# Altium footprint library Other.PcbLib: 3 footprints
Each footprint in its own frame and in the unit in brackets; x right, y up, seen from the top. Pads: shape width x height; smd on the part's side, far side on the other; paste and mask are expansions set on the pad; w line width, h text height; cw(c..) or ccw(c..) is an arc to the next point about the centre after c.
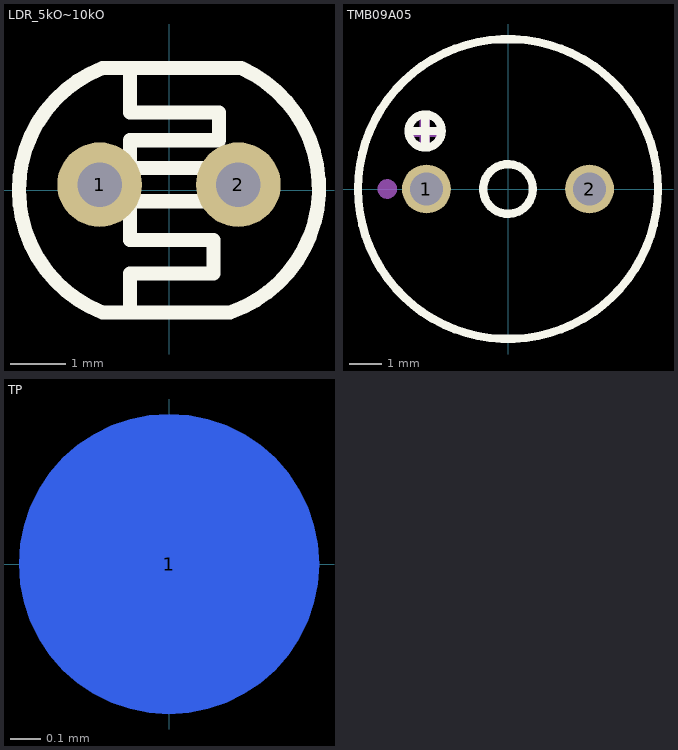
[diagram p0: the footprints below, top view; thin cyan lines are the x and y axes]

## LDR_5kO~10kO [mil] "540nm 5kO~10kO 600kO Through Hole,P=2.2mm Photoresistors RoHS"
pads (2):
  round 60 hole 31.5 paste-99999 mask+2: 1(-49.22,3.94) 2(49.21,3.94)
Top Overlay:
  lines w10: -47.23,-86.66 cw(c-13.33,-0.01) -47.23,86.64 ; -47.25,-86.61 43.3,-86.61 ; -47.25,86.61 51.18,86.61 ; -27.56,-86.61 -27.56,-59.05 31.49,-59.05 31.49,-35.43 -27.56,-35.43 -27.56,-7.87 31.49,-7.87 31.49,15.75 -27.56,15.75 -27.56,35.44 35.43,35.44 35.43,55.12 -27.56,55.12 -27.56,86.61 ; 43.27,-86.66 ccw(c13.19,1.54) 51.17,86.64
3D body "LDR_5kO~10kO.step": height 70.87, standoff -196.85, extent -80.71,-66.93 80.23,66.97

## TMB09A05 [mm] "Active Buzzer (Built-in Driving Circuit) 2.7kHz 5V Electromagnetic Through Hole,D9xL5.5mm Alarms, Buzzers, and Sirens RoHS"
pads (2):
  round 1.5 hole 1 paste-2539.97 mask+0.051: 1(-2.5,0) 2(2.5,0)
Top Overlay:
  circle w0.254: c-2.54,1.778 r0.508
  circle w0.254: c0,0 r0.762
  circle w0.254: c0,0 r4.6
  lines w0.254: -3.048,1.778 -2.032,1.778 ; -2.54,1.27 -2.54,2.286
Mechanical 15:
  circle w0.3: c-3.703,0 r0.15
  region: -3.1,1.6 -3.1,1.9 -2,1.9 -2,1.6
  region: -2.7,1.3 -2.7,2.2 -2.4,2.2 -2.4,1.3
3D body "TMB09A05.step": height 5.51, standoff -5.5, extent -4.5,-4.5 4.5,4.5

## TP [mm]
pads (1):
  round 1 smd far side paste+0 mask+0.051: 1(0,0)